# Altium footprint library PAD 1.6mm.PcbLib: 1 footprints
Each footprint in its own frame and in the unit in brackets; x right, y up, seen from the top. Pads: shape width x height; smd on the part's side, far side on the other; paste and mask are expansions set on the pad; w line width, h text height; cw(c..) or ccw(c..) is an arc to the next point about the centre after c.
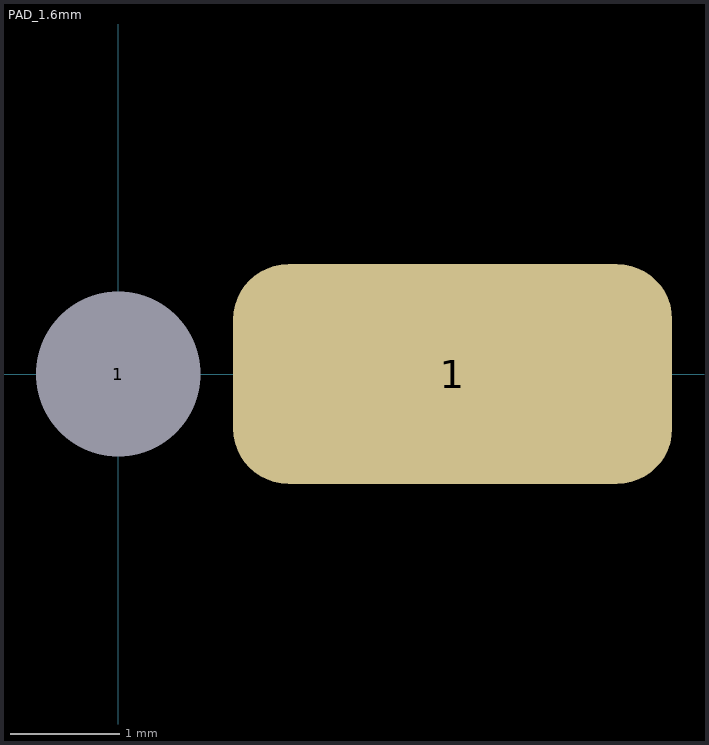
[diagram p0: the footprint, top view; thin cyan lines are the x and y axes]

## PAD_1.6mm [mm]
pads (2):
  round 0.2 hole 1.5 mask+0.05: 1(0,0)
  rrect50% 4x2 smd mask+0.05: 1(3.048,0)